# Altium footprint library HC-49SMD.PcbLib: 1 footprints
Each footprint in its own frame and in the unit in brackets; x right, y up, seen from the top. Pads: shape width x height; smd on the part's side, far side on the other; paste and mask are expansions set on the pad; w line width, h text height; cw(c..) or ccw(c..) is an arc to the next point about the centre after c.
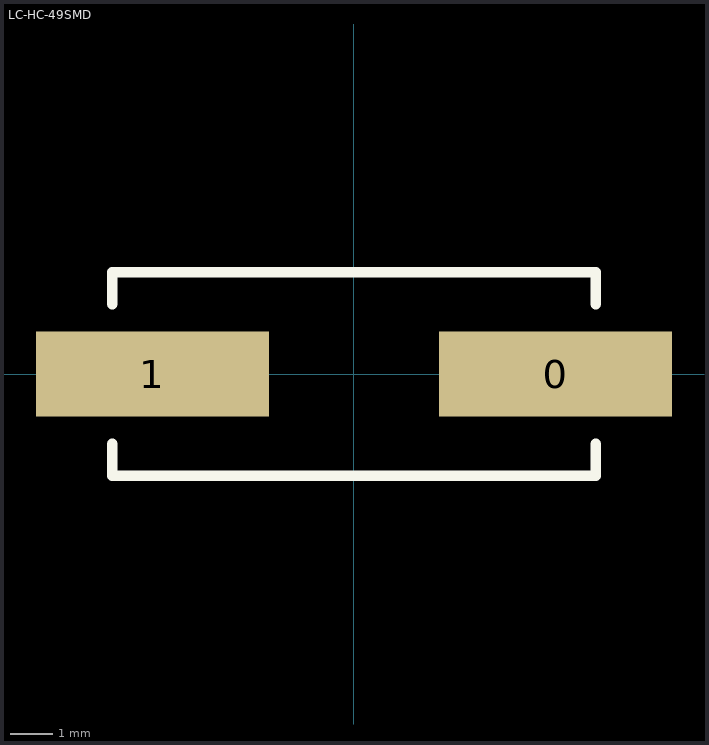
[diagram p0: the footprint, top view; thin cyan lines are the x and y axes]

## LC-HC-49SMD [mm]
pads (2):
  rect 5.5x2 smd: 0(4.75,0) 1(-4.75,0)
Top Overlay:
  lines w0.254: -5.7,-1.65 -5.7,-2.4 5.7,-2.4 5.7,-1.65 ; -5.7,1.65 -5.7,2.4 5.7,2.4 5.7,1.65
3D body: height 4, standoff 0, extent -6.7,-2.462 6.7,2.438